# Altium schematic symbol library Schlib1.SchLib: 3 symbols
Pins are listed as number, name and electrical type; pins without a type are passive.

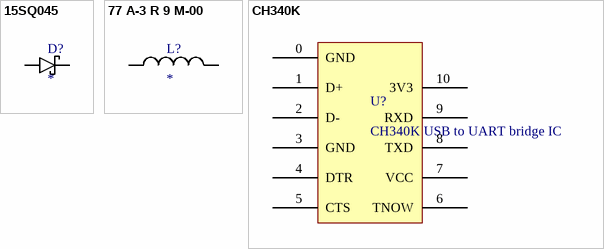
[diagram p0: symbols 15SQ045 to CH340K]

## 15SQ045
designator D?
Diotec 15SQ045; Voltage: 45V; Current: 15A
footprint Shottky Diode (Diotec 15SQ045)
pins: 1, 2

## 77 A-3 R 9 M-00
designator L?
Fastron 77 A-3 R 9 M-00; Inductance: 3.9uH; Max Current: 12A; Tolerance: +-20%
footprint FIlter Inductor (Fastron  77 A-3 R 9 M-00)
pins: 1, 2

## CH340K
designator U?, comment CH340K USB to UART bridge IC
footprint CH340K footprint
pins: 0 GND, 1 D+, 2 D-, 3 GND, 4 DTR, 5 CTS, 6 TNOW, 7 VCC, 8 TXD, 9 RXD, 10 3V3